# Altium footprint library RESC1206(3216)_L.PcbLib: 1 footprints
Each footprint in its own frame and in the unit in brackets; x right, y up, seen from the top. Pads: shape width x height; smd on the part's side, far side on the other; paste and mask are expansions set on the pad; w line width, h text height; cw(c..) or ccw(c..) is an arc to the next point about the centre after c.
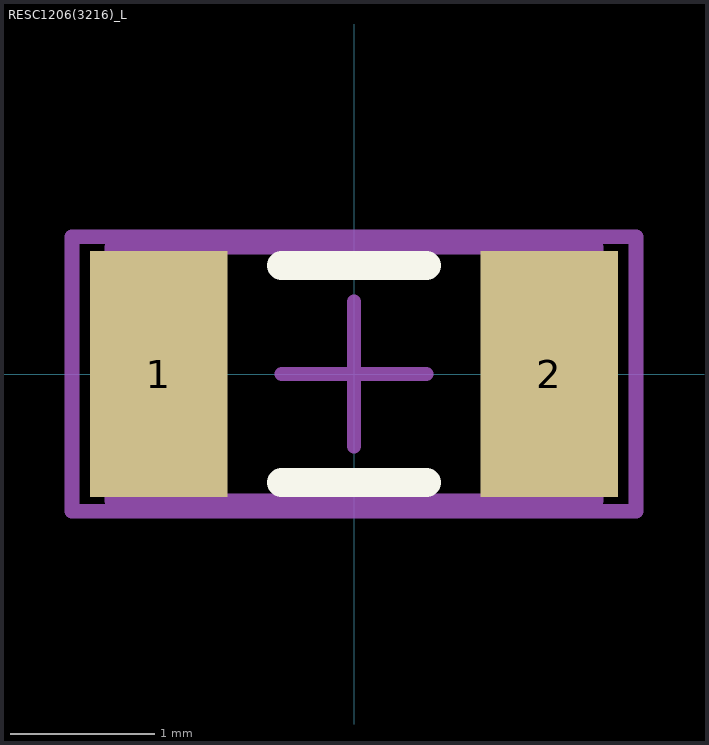
[diagram p0: the footprint, top view; thin cyan lines are the x and y axes]

## RESC1206(3216)_L [mm] "Chip Resistor, Body 3.2x1.6mm, IPC High Density"
height 0.75
pads (2):
  rect 0.95x1.7 smd: 1(-1.35,0) 2(1.35,0)
Top Overlay:
  lines w0.2: -0.5,-0.75 0.5,-0.75 ; -0.5,0.75 0.5,0.75
Mechanical 13:
  lines w0.1: -1.675,-0.875 -1.675,0.875 1.675,0.875 1.675,-0.875 -1.675,-0.875
Mechanical 15:
  lines w0.05: -1.95,-0.95 -1.95,0.95 1.95,0.95 1.95,-0.95 -1.95,-0.95
  lines w0.1: -0.5,0 0.5,0 ; 0,-0.5 0,0.5
Mechanical 29:
  lines w0.102: -1.95,-0.95 1.95,-0.95 1.95,0.95 -1.95,0.95 -1.95,-0.95
  text ".Designator" at -0.762,-0.508 h1.52
3D body: height 0.6, standoff 0, extent -1.549,-0.8 1.551,0.8